# EAGLE library part ADE7757 (library Projeto_Nicolau)
CI sensor de potencia ativa.
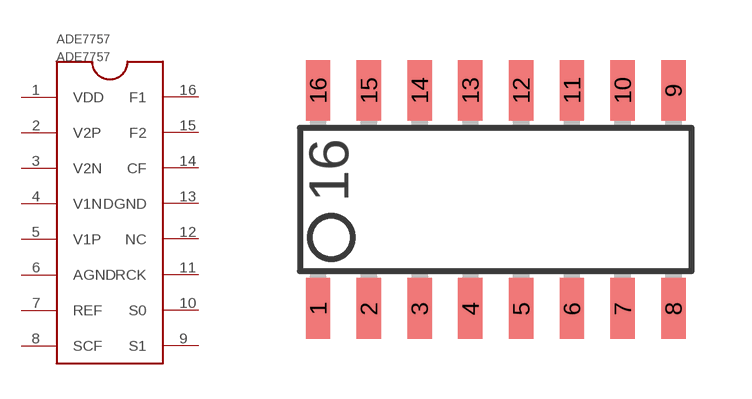
[diagram p8: symbol with the pads of SO16; footprint SO16]

Designator prefix ADE7757

## ADE7757  [SO16]
1  VDD
2  V2P
3  V2N
4  V1N
5  V1P
6  AGND
7  REF
8  SCF
9  S1
10  S0
11  RCK
12  NC
13  DGND
14  CF
15  F2
16  F1

## Footprint SO16 (pad centres in mm)
smd 0.61 x 1.524: 1 -4.445,-2.794; 2 -3.175,-2.794; 3 -1.905,-2.794; 4 -0.635,-2.794; 5 0.635,-2.794; 6 1.905,-2.794; 7 3.175,-2.794; 8 4.445,-2.794; 9 4.445,2.667; 10 3.175,2.667; 11 1.905,2.667; 12 0.635,2.667; 13 -0.635,2.667; 14 -1.905,2.667; 15 -3.175,2.667; 16 -4.445,2.667